# Altium footprint library SoC.PcbLib: 3 footprints
Each footprint in its own frame and in the unit in brackets; x right, y up, seen from the top. Pads: shape width x height; smd on the part's side, far side on the other; paste and mask are expansions set on the pad; w line width, h text height; cw(c..) or ccw(c..) is an arc to the next point about the centre after c.
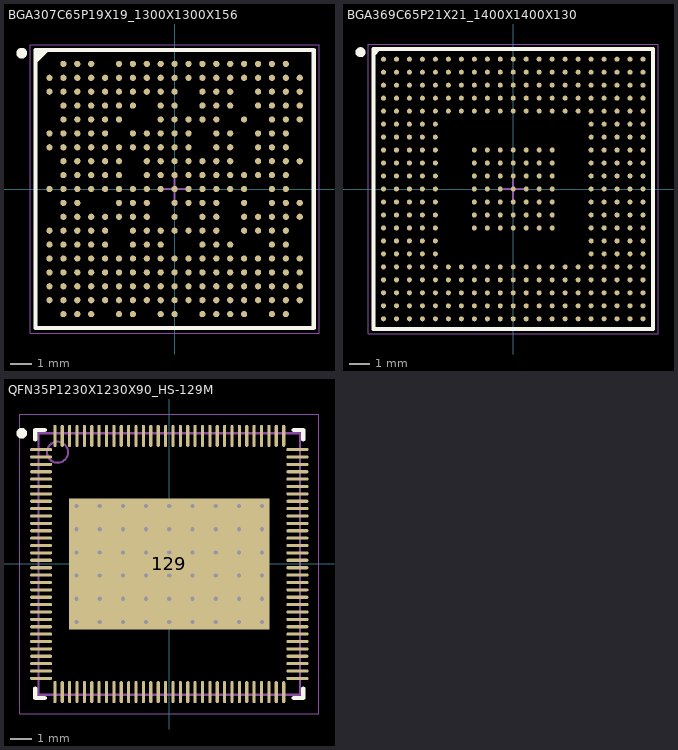
[diagram p0: the footprints below, top view; thin cyan lines are the x and y axes]

## BGA307C65P19X19_1300X1300X156 [mm] "BGA, 307-Leads, Body 13,00x13,00mmx1,56mm, Pitch 0,65mm"
height 1.56
pads (307):
  round 0.29 smd: A2(-5.2,5.85) A3(-4.55,5.85) A4(-3.9,5.85) A6(-2.6,5.85) A7(-1.95,5.85) A8(-1.3,5.85) A9(-0.65,5.85) A10(0,5.85) A11(0.65,5.85) A12(1.3,5.85) A13(1.95,5.85) A14(2.6,5.85) A15(3.25,5.85) A16(3.9,5.85) A17(4.55,5.85) A18(5.2,5.85) B1(-5.85,5.2) B2(-5.2,5.2) B3(-4.55,5.2) B4(-3.9,5.2) B5(-3.25,5.2) B6(-2.6,5.2) B7(-1.95,5.2) B8(-1.3,5.2) B9(-0.65,5.2) B10(0,5.2) B11(0.65,5.2) B12(1.3,5.2) B13(1.95,5.2) B14(2.6,5.2) B15(3.25,5.2) B16(3.9,5.2) B17(4.55,5.2) B18(5.2,5.2) B19(5.85,5.2) C1(-5.85,4.55) C2(-5.2,4.55) C3(-4.55,4.55) C4(-3.9,4.55) C5(-3.25,4.55) C6(-2.6,4.55) C7(-1.95,4.55) C8(-1.3,4.55) C9(-0.65,4.55) C10(0,4.55) C12(1.3,4.55) C13(1.95,4.55) C14(2.6,4.55) C16(3.9,4.55) C17(4.55,4.55) C18(5.2,4.55) C19(5.85,4.55) D2(-5.2,3.9) D3(-4.55,3.9) D4(-3.9,3.9) D5(-3.25,3.9) D6(-2.6,3.9) D7(-1.95,3.9) D9(-0.65,3.9) D10(0,3.9) D12(1.3,3.9) D13(1.95,3.9) D14(2.6,3.9) D16(3.9,3.9) D17(4.55,3.9) D18(5.2,3.9) D19(5.85,3.9) E2(-5.2,3.25) E3(-4.55,3.25) E4(-3.9,3.25) E5(-3.25,3.25) E6(-2.6,3.25) E9(-0.65,3.25) E10(0,3.25) E11(0.65,3.25) E12(1.3,3.25) E13(1.95,3.25) E15(3.25,3.25) E17(4.55,3.25) E18(5.2,3.25) E19(5.85,3.25) F1(-5.85,2.6) F2(-5.2,2.6) F3(-4.55,2.6) F4(-3.9,2.6) F5(-3.25,2.6) F7(-1.95,2.6) F8(-1.3,2.6) F9(-0.65,2.6) F10(0,2.6) F11(0.65,2.6) F13(1.95,2.6) F14(2.6,2.6) F16(3.9,2.6) F17(4.55,2.6) F18(5.2,2.6) G1(-5.85,1.95) G2(-5.2,1.95) G3(-4.55,1.95) G4(-3.9,1.95) G5(-3.25,1.95) G6(-2.6,1.95) G7(-1.95,1.95) G8(-1.3,1.95) G9(-0.65,1.95) G10(0,1.95) G11(0.65,1.95) G13(1.95,1.95) G14(2.6,1.95) G16(3.9,1.95) G17(4.55,1.95) G18(5.2,1.95) H2(-5.2,1.3) H3(-4.55,1.3) H4(-3.9,1.3) H5(-3.25,1.3) H6(-2.6,1.3) H8(-1.3,1.3) H9(-0.65,1.3) H10(0,1.3) H11(0.65,1.3) H12(1.3,1.3) H13(1.95,1.3) H14(2.6,1.3) H16(3.9,1.3) H17(4.55,1.3) H18(5.2,1.3) H19(5.85,1.3) J2(-5.2,0.65) J3(-4.55,0.65) J4(-3.9,0.65) J5(-3.25,0.65) J6(-2.6,0.65) J8(-1.3,0.65) J9(-0.65,0.65) J10(0,0.65) J11(0.65,0.65) J12(1.3,0.65) J13(1.95,0.65) J14(2.6,0.65) J15(3.25,0.65) J16(3.9,0.65) J17(4.55,0.65) J18(5.2,0.65) K1(-5.85,0) K2(-5.2,0) K3(-4.55,0) K4(-3.9,0) K5(-3.25,0) K6(-2.6,0) K7(-1.95,0) K8(-1.3,0) K9(-0.65,0) K10(0,0) K11(0.65,0) K12(1.3,0) K13(1.95,0) K14(2.6,0) K15(3.25,0) K17(4.55,0) K18(5.2,0) L2(-5.2,-0.65) L3(-4.55,-0.65) L6(-2.6,-0.65) L7(-1.95,-0.65) L8(-1.3,-0.65) L10(0,-0.65) L11(0.65,-0.65) L12(1.3,-0.65) L13(1.95,-0.65) L15(3.25,-0.65) L17(4.55,-0.65) L18(5.2,-0.65) L19(5.85,-0.65) M2(-5.2,-1.3) M3(-4.55,-1.3) M4(-3.9,-1.3) M5(-3.25,-1.3) M6(-2.6,-1.3) M7(-1.95,-1.3) M8(-1.3,-1.3) M10(0,-1.3) M12(1.3,-1.3) M13(1.95,-1.3) M15(3.25,-1.3) M16(3.9,-1.3) M17(4.55,-1.3) M18(5.2,-1.3) M19(5.85,-1.3) N1(-5.85,-1.95) N2(-5.2,-1.95) N3(-4.55,-1.95) N4(-3.9,-1.95) N5(-3.25,-1.95) N7(-1.95,-1.95) N8(-1.3,-1.95) N9(-0.65,-1.95) N10(0,-1.95) N11(0.65,-1.95) N12(1.3,-1.95) N13(1.95,-1.95) N15(3.25,-1.95) N16(3.9,-1.95) N17(4.55,-1.95) N18(5.2,-1.95) P1(-5.85,-2.6) P2(-5.2,-2.6) P3(-4.55,-2.6) P4(-3.9,-2.6) P5(-3.25,-2.6) P7(-1.95,-2.6) P8(-1.3,-2.6) P9(-0.65,-2.6) P12(1.3,-2.6) P13(1.95,-2.6) P14(2.6,-2.6) P17(4.55,-2.6) P18(5.2,-2.6) R1(-5.85,-3.25) R2(-5.2,-3.25) R3(-4.55,-3.25) R4(-3.9,-3.25) R5(-3.25,-3.25) R6(-2.6,-3.25) R7(-1.95,-3.25) R8(-1.3,-3.25) R9(-0.65,-3.25) R10(0,-3.25) R11(0.65,-3.25) R12(1.3,-3.25) R13(1.95,-3.25) R14(2.6,-3.25) R15(3.25,-3.25) R16(3.9,-3.25) R17(4.55,-3.25) R18(5.2,-3.25) R19(5.85,-3.25) T1(-5.85,-3.9) T2(-5.2,-3.9) T3(-4.55,-3.9) T4(-3.9,-3.9) T5(-3.25,-3.9) T6(-2.6,-3.9) T7(-1.95,-3.9) T8(-1.3,-3.9) T9(-0.65,-3.9) T10(0,-3.9) T11(0.65,-3.9) T12(1.3,-3.9) T13(1.95,-3.9) T14(2.6,-3.9) T15(3.25,-3.9) T16(3.9,-3.9) T17(4.55,-3.9) T18(5.2,-3.9) T19(5.85,-3.9) U1(-5.85,-4.55) U2(-5.2,-4.55) U3(-4.55,-4.55) U4(-3.9,-4.55) U5(-3.25,-4.55) U6(-2.6,-4.55) U7(-1.95,-4.55) U8(-1.3,-4.55) U9(-0.65,-4.55) U10(0,-4.55) U11(0.65,-4.55) U12(1.3,-4.55) U13(1.95,-4.55) U14(2.6,-4.55) U15(3.25,-4.55) U16(3.9,-4.55) U17(4.55,-4.55) U18(5.2,-4.55) U19(5.85,-4.55) V1(-5.85,-5.2) V2(-5.2,-5.2) V3(-4.55,-5.2) V4(-3.9,-5.2) V5(-3.25,-5.2) V6(-2.6,-5.2) V7(-1.95,-5.2) V8(-1.3,-5.2) V9(-0.65,-5.2) V10(0,-5.2) V11(0.65,-5.2) V12(1.3,-5.2) V13(1.95,-5.2) V14(2.6,-5.2) V15(3.25,-5.2) V16(3.9,-5.2) V17(4.55,-5.2) V18(5.2,-5.2) V19(5.85,-5.2) W2(-5.2,-5.85) W3(-4.55,-5.85) W4(-3.9,-5.85) W6(-2.6,-5.85) W7(-1.95,-5.85) W9(-0.65,-5.85) W10(0,-5.85) W12(1.3,-5.85) W13(1.95,-5.85) W14(2.6,-5.85) W15(3.25,-5.85) W17(4.55,-5.85) W18(5.2,-5.85)
Top Overlay:
  circle w0.25: c-7.15,6.35 r0.125
  region: -5.971,6.5 -6.5,5.971 -6.5,6.5
  lines w0.2: -6.5,5.971 -5.971,6.5 ; -6.5,-6.5 6.5,-6.5 6.5,6.5 -6.5,6.5 -6.5,-6.5
Mechanical 13:
  lines w0.1: -6.5,-6.5 6.5,-6.5 6.5,6.5 -6.5,6.5 -6.5,-6.5
Mechanical 15:
  lines w0.05: -6.75,-6.75 6.75,-6.75 6.75,6.75 -6.75,6.75 -6.75,-6.75
  lines w0.1: -0.5,0 0.5,0 ; 0,-0.5 0,0.5
3D body: height 1.56, standoff 0.32, extent -6.5,-6.5 6.5,6.5

## BGA369C65P21X21_1400X1400X130 [mm] "BGA, 369-Leads, Body 14,00x14,00mmx1,30mm, Pitch 0,65mm"
height 1.3
pads (369):
  round 0.25 smd mask+0.05: A1(-6.5,6.5) A2(-5.85,6.5) A3(-5.2,6.5) A4(-4.55,6.5) A5(-3.9,6.5) A6(-3.25,6.5) A7(-2.6,6.5) A8(-1.95,6.5) A9(-1.3,6.5) A10(-0.65,6.5) A11(0,6.5) A12(0.65,6.5) A13(1.3,6.5) A14(1.95,6.5) A15(2.6,6.5) A16(3.25,6.5) A17(3.9,6.5) A18(4.55,6.5) A19(5.2,6.5) A20(5.85,6.5) A21(6.5,6.5) AA1(-6.5,-6.5) AA2(-5.85,-6.5) AA3(-5.2,-6.5) AA4(-4.55,-6.5) AA5(-3.9,-6.5) AA6(-3.25,-6.5) AA7(-2.6,-6.5) AA8(-1.95,-6.5) AA9(-1.3,-6.5) AA10(-0.65,-6.5) AA11(0,-6.5) AA12(0.65,-6.5) AA13(1.3,-6.5) AA14(1.95,-6.5) AA15(2.6,-6.5) AA16(3.25,-6.5) AA17(3.9,-6.5) AA18(4.55,-6.5) AA19(5.2,-6.5) AA20(5.85,-6.5) AA21(6.5,-6.5) B1(-6.5,5.85) B2(-5.85,5.85) B3(-5.2,5.85) B4(-4.55,5.85) B5(-3.9,5.85) B6(-3.25,5.85) B7(-2.6,5.85) B8(-1.95,5.85) B9(-1.3,5.85) B10(-0.65,5.85) B11(0,5.85) B12(0.65,5.85) B13(1.3,5.85) B14(1.95,5.85) B15(2.6,5.85) B16(3.25,5.85) B17(3.9,5.85) B18(4.55,5.85) B19(5.2,5.85) B20(5.85,5.85) B21(6.5,5.85) C1(-6.5,5.2) C2(-5.85,5.2) C3(-5.2,5.2) C4(-4.55,5.2) C5(-3.9,5.2) C6(-3.25,5.2) C7(-2.6,5.2) C8(-1.95,5.2) C9(-1.3,5.2) C10(-0.65,5.2) C11(0,5.2) C12(0.65,5.2) C13(1.3,5.2) C14(1.95,5.2) C15(2.6,5.2) C16(3.25,5.2) C17(3.9,5.2) C18(4.55,5.2) C19(5.2,5.2) C20(5.85,5.2) C21(6.5,5.2) D1(-6.5,4.55) D2(-5.85,4.55) D3(-5.2,4.55) D4(-4.55,4.55) D5(-3.9,4.55) D6(-3.25,4.55) D7(-2.6,4.55) D8(-1.95,4.55) D9(-1.3,4.55) D10(-0.65,4.55) D11(0,4.55) D12(0.65,4.55) D13(1.3,4.55) D14(1.95,4.55) D15(2.6,4.55) D16(3.25,4.55) D17(3.9,4.55) D18(4.55,4.55) D19(5.2,4.55) D20(5.85,4.55) D21(6.5,4.55) E1(-6.5,3.9) E2(-5.85,3.9) E3(-5.2,3.9) E4(-4.55,3.9) E5(-3.9,3.9) E6(-3.25,3.9) E7(-2.6,3.9) E8(-1.95,3.9) E9(-1.3,3.9) E10(-0.65,3.9) E11(0,3.9) E12(0.65,3.9) E13(1.3,3.9) E14(1.95,3.9) E15(2.6,3.9) E16(3.25,3.9) E17(3.9,3.9) E18(4.55,3.9) E19(5.2,3.9) E20(5.85,3.9) E21(6.5,3.9) F1(-6.5,3.25) F2(-5.85,3.25) F3(-5.2,3.25) F4(-4.55,3.25) F5(-3.9,3.25) F17(3.9,3.25) F18(4.55,3.25) F19(5.2,3.25) F20(5.85,3.25) F21(6.5,3.25) G1(-6.5,2.6) G2(-5.85,2.6) G3(-5.2,2.6) G4(-4.55,2.6) G5(-3.9,2.6) G17(3.9,2.6) G18(4.55,2.6) G19(5.2,2.6) G20(5.85,2.6) G21(6.5,2.6) H1(-6.5,1.95) H2(-5.85,1.95) H3(-5.2,1.95) H4(-4.55,1.95) H5(-3.9,1.95) H8(-1.95,1.95) H9(-1.3,1.95) H10(-0.65,1.95) H11(0,1.95) H12(0.65,1.95) H13(1.3,1.95) H14(1.95,1.95) H17(3.9,1.95) H18(4.55,1.95) H19(5.2,1.95) H20(5.85,1.95) H21(6.5,1.95) J1(-6.5,1.3) J2(-5.85,1.3) J3(-5.2,1.3) J4(-4.55,1.3) J5(-3.9,1.3) J8(-1.95,1.3) J9(-1.3,1.3) J10(-0.65,1.3) J11(0,1.3) J12(0.65,1.3) J13(1.3,1.3) J14(1.95,1.3) J17(3.9,1.3) J18(4.55,1.3) J19(5.2,1.3) J20(5.85,1.3) J21(6.5,1.3) K1(-6.5,0.65) K2(-5.85,0.65) K3(-5.2,0.65) K4(-4.55,0.65) K5(-3.9,0.65) K8(-1.95,0.65) K9(-1.3,0.65) K10(-0.65,0.65) K11(0,0.65) K12(0.65,0.65) K13(1.3,0.65) K14(1.95,0.65) K17(3.9,0.65) K18(4.55,0.65) K19(5.2,0.65) K20(5.85,0.65) K21(6.5,0.65) L1(-6.5,0) L2(-5.85,0) L3(-5.2,0) L4(-4.55,0) L5(-3.9,0) L8(-1.95,0) L9(-1.3,0) L10(-0.65,0) L11(0,0) L12(0.65,0) L13(1.3,0) L14(1.95,0) L17(3.9,0) L18(4.55,0) L19(5.2,0) L20(5.85,0) L21(6.5,0) M1(-6.5,-0.65) M2(-5.85,-0.65) M3(-5.2,-0.65) M4(-4.55,-0.65) M5(-3.9,-0.65) M8(-1.95,-0.65) M9(-1.3,-0.65) M10(-0.65,-0.65) M11(0,-0.65) M12(0.65,-0.65) M13(1.3,-0.65) M14(1.95,-0.65) M17(3.9,-0.65) M18(4.55,-0.65) M19(5.2,-0.65) M20(5.85,-0.65) M21(6.5,-0.65) N1(-6.5,-1.3) N2(-5.85,-1.3) N3(-5.2,-1.3) N4(-4.55,-1.3) N5(-3.9,-1.3) N8(-1.95,-1.3) N9(-1.3,-1.3) N10(-0.65,-1.3) N11(0,-1.3) N12(0.65,-1.3) N13(1.3,-1.3) N14(1.95,-1.3) N17(3.9,-1.3) N18(4.55,-1.3) N19(5.2,-1.3) N20(5.85,-1.3) N21(6.5,-1.3) P1(-6.5,-1.95) P2(-5.85,-1.95) P3(-5.2,-1.95) P4(-4.55,-1.95) P5(-3.9,-1.95) P8(-1.95,-1.95) P9(-1.3,-1.95) P10(-0.65,-1.95) P11(0,-1.95) P12(0.65,-1.95) P13(1.3,-1.95) P14(1.95,-1.95) P17(3.9,-1.95) P18(4.55,-1.95) P19(5.2,-1.95) P20(5.85,-1.95) P21(6.5,-1.95) R1(-6.5,-2.6) R2(-5.85,-2.6) R3(-5.2,-2.6) R4(-4.55,-2.6) R5(-3.9,-2.6) R17(3.9,-2.6) R18(4.55,-2.6) R19(5.2,-2.6) R20(5.85,-2.6) R21(6.5,-2.6) T1(-6.5,-3.25) T2(-5.85,-3.25) T3(-5.2,-3.25) T4(-4.55,-3.25) T5(-3.9,-3.25) T17(3.9,-3.25) T18(4.55,-3.25) T19(5.2,-3.25) T20(5.85,-3.25) T21(6.5,-3.25) U1(-6.5,-3.9) U2(-5.85,-3.9) U3(-5.2,-3.9) U4(-4.55,-3.9) U5(-3.9,-3.9) U6(-3.25,-3.9) U7(-2.6,-3.9) U8(-1.95,-3.9) U9(-1.3,-3.9) U10(-0.65,-3.9) U11(0,-3.9) U12(0.65,-3.9) U13(1.3,-3.9) U14(1.95,-3.9) U15(2.6,-3.9) U16(3.25,-3.9) U17(3.9,-3.9) U18(4.55,-3.9) U19(5.2,-3.9) U20(5.85,-3.9) U21(6.5,-3.9) V1(-6.5,-4.55) V2(-5.85,-4.55) V3(-5.2,-4.55) V4(-4.55,-4.55) V5(-3.9,-4.55) V6(-3.25,-4.55) V7(-2.6,-4.55) V8(-1.95,-4.55) V9(-1.3,-4.55) V10(-0.65,-4.55) V11(0,-4.55) V12(0.65,-4.55) V13(1.3,-4.55) V14(1.95,-4.55) V15(2.6,-4.55) V16(3.25,-4.55) V17(3.9,-4.55) V18(4.55,-4.55) V19(5.2,-4.55) V20(5.85,-4.55) V21(6.5,-4.55) W1(-6.5,-5.2) W2(-5.85,-5.2) W3(-5.2,-5.2) W4(-4.55,-5.2) W5(-3.9,-5.2) W6(-3.25,-5.2) W7(-2.6,-5.2) W8(-1.95,-5.2) W9(-1.3,-5.2) W10(-0.65,-5.2) W11(0,-5.2) W12(0.65,-5.2) W13(1.3,-5.2) W14(1.95,-5.2) W15(2.6,-5.2) W16(3.25,-5.2) W17(3.9,-5.2) W18(4.55,-5.2) W19(5.2,-5.2) W20(5.85,-5.2) W21(6.5,-5.2) Y1(-6.5,-5.85) Y2(-5.85,-5.85) Y3(-5.2,-5.85) Y4(-4.55,-5.85) Y5(-3.9,-5.85) Y6(-3.25,-5.85) Y7(-2.6,-5.85) Y8(-1.95,-5.85) Y9(-1.3,-5.85) Y10(-0.65,-5.85) Y11(0,-5.85) Y12(0.65,-5.85) Y13(1.3,-5.85) Y14(1.95,-5.85) Y15(2.6,-5.85) Y16(3.25,-5.85) Y17(3.9,-5.85) Y18(4.55,-5.85) Y19(5.2,-5.85) Y20(5.85,-5.85) Y21(6.5,-5.85)
Top Overlay:
  circle w0.25: c-7.65,6.85 r0.125
  region: -6.742,7 -7,6.742 -7,7
  lines w0.2: -7,6.742 -6.742,7 ; -7,-7 -7,7 7,7 7,-7 -7,-7
Mechanical 13:
  lines w0.1: -7,-7 -7,7 7,7 7,-7 -7,-7
Mechanical 15:
  lines w0.05: -7.25,-7.25 -7.25,7.25 7.25,7.25 7.25,-7.25 -7.25,-7.25
  lines w0.1: -0.5,0 0.5,0 ; 0,-0.5 0,0.5
3D body "BGA369C65P21X21_1400X1400X130.step": height 1.3, standoff 0, extent -7,-7 7,7

## QFN35P1230X1230X90_HS-129M [mm] "QFN, 128-Leads, Body 12,30x12,30mm, Pitch 0,35mm, Thermal Pad 9,50x6,20mm, IPC Low Density"
height 0.9
pads (129):
  oval 1.05x0.15 smd: 1(-6.075,5.425) 2(-6.075,5.075) 3(-6.075,4.725) 4(-6.075,4.375) 5(-6.075,4.025) 6(-6.075,3.675) 7(-6.075,3.325) 8(-6.075,2.975) 9(-6.075,2.625) 10(-6.075,2.275) 11(-6.075,1.925) 12(-6.075,1.575) 13(-6.075,1.225) 14(-6.075,0.875) 15(-6.075,0.525) 16(-6.075,0.175) 17(-6.075,-0.175) 18(-6.075,-0.525) 19(-6.075,-0.875) 20(-6.075,-1.225) 21(-6.075,-1.575) 22(-6.075,-1.925) 23(-6.075,-2.275) 24(-6.075,-2.625) 25(-6.075,-2.975) 26(-6.075,-3.325) 27(-6.075,-3.675) 28(-6.075,-4.025) 29(-6.075,-4.375) 30(-6.075,-4.725) 31(-6.075,-5.075) 32(-6.075,-5.425) 65(6.075,-5.425) 66(6.075,-5.075) 67(6.075,-4.725) 68(6.075,-4.375) 69(6.075,-4.025) 70(6.075,-3.675) 71(6.075,-3.325) 72(6.075,-2.975) 73(6.075,-2.625) 74(6.075,-2.275) 75(6.075,-1.925) 76(6.075,-1.575) 77(6.075,-1.225) 78(6.075,-0.875) 79(6.075,-0.525) 80(6.075,-0.175) 81(6.075,0.175) 82(6.075,0.525) 83(6.075,0.875) 84(6.075,1.225) 85(6.075,1.575) 86(6.075,1.925) 87(6.075,2.275) 88(6.075,2.625) 89(6.075,2.975) 90(6.075,3.325) 91(6.075,3.675) 92(6.075,4.025) 93(6.075,4.375) 94(6.075,4.725) 95(6.075,5.075) 96(6.075,5.425)
  oval 0.15x1.05 smd: 33(-5.425,-6.075) 34(-5.075,-6.075) 35(-4.725,-6.075) 36(-4.375,-6.075) 37(-4.025,-6.075) 38(-3.675,-6.075) 39(-3.325,-6.075) 40(-2.975,-6.075) 41(-2.625,-6.075) 42(-2.275,-6.075) 43(-1.925,-6.075) 44(-1.575,-6.075) 45(-1.225,-6.075) 46(-0.875,-6.075) 47(-0.525,-6.075) 48(-0.175,-6.075) 49(0.175,-6.075) 50(0.525,-6.075) 51(0.875,-6.075) 52(1.225,-6.075) 53(1.575,-6.075) 54(1.925,-6.075) 55(2.275,-6.075) 56(2.625,-6.075) 57(2.975,-6.075) 58(3.325,-6.075) 59(3.675,-6.075) 60(4.025,-6.075) 61(4.375,-6.075) 62(4.725,-6.075) 63(5.075,-6.075) 64(5.425,-6.075) 97(5.425,6.075) 98(5.075,6.075) 99(4.725,6.075) 100(4.375,6.075) 101(4.025,6.075) 102(3.675,6.075) 103(3.325,6.075) 104(2.975,6.075) 105(2.625,6.075) 106(2.275,6.075) 107(1.925,6.075) 108(1.575,6.075) 109(1.225,6.075) 110(0.875,6.075) 111(0.525,6.075) 112(0.175,6.075) 113(-0.175,6.075) 114(-0.525,6.075) 115(-0.875,6.075) 116(-1.225,6.075) 117(-1.575,6.075) 118(-1.925,6.075) 119(-2.275,6.075) 120(-2.625,6.075) 121(-2.975,6.075) 122(-3.325,6.075) 123(-3.675,6.075) 124(-4.025,6.075) 125(-4.375,6.075) 126(-4.725,6.075) 127(-5.075,6.075) 128(-5.425,6.075)
  rect 9.5x6.2 smd: 129(0,0)
via 4.4,-2.75 diameter 0.5 hole 0.2
via 3.3,-2.75 diameter 0.5 hole 0.2
via 2.2,-2.75 diameter 0.5 hole 0.2
via 1.1,-2.75 diameter 0.5 hole 0.2
via 0,-2.75 diameter 0.5 hole 0.2
via -1.1,-2.75 diameter 0.5 hole 0.2
via -2.2,-2.75 diameter 0.5 hole 0.2
via -3.3,-2.75 diameter 0.5 hole 0.2
via -4.4,-2.75 diameter 0.5 hole 0.2
via 4.4,-1.65 diameter 0.5 hole 0.2
via 3.3,-1.65 diameter 0.5 hole 0.2
via 2.2,-1.65 diameter 0.5 hole 0.2
via 1.1,-1.65 diameter 0.5 hole 0.2
via 0,-1.65 diameter 0.5 hole 0.2
via -1.1,-1.65 diameter 0.5 hole 0.2
via -2.2,-1.65 diameter 0.5 hole 0.2
via -3.3,-1.65 diameter 0.5 hole 0.2
via -4.4,-1.65 diameter 0.5 hole 0.2
via 4.4,-0.55 diameter 0.5 hole 0.2
via 3.3,-0.55 diameter 0.5 hole 0.2
via 2.2,-0.55 diameter 0.5 hole 0.2
via 1.1,-0.55 diameter 0.5 hole 0.2
via 0,-0.55 diameter 0.5 hole 0.2
via -1.1,-0.55 diameter 0.5 hole 0.2
via -2.2,-0.55 diameter 0.5 hole 0.2
via -3.3,-0.55 diameter 0.5 hole 0.2
via -4.4,-0.55 diameter 0.5 hole 0.2
via 4.4,0.55 diameter 0.5 hole 0.2
via 3.3,0.55 diameter 0.5 hole 0.2
via 2.2,0.55 diameter 0.5 hole 0.2
via 1.1,0.55 diameter 0.5 hole 0.2
via 0,0.55 diameter 0.5 hole 0.2
via -1.1,0.55 diameter 0.5 hole 0.2
via -2.2,0.55 diameter 0.5 hole 0.2
via -3.3,0.55 diameter 0.5 hole 0.2
via -4.4,0.55 diameter 0.5 hole 0.2
via 4.4,1.65 diameter 0.5 hole 0.2
via 3.3,1.65 diameter 0.5 hole 0.2
via 2.2,1.65 diameter 0.5 hole 0.2
via 1.1,1.65 diameter 0.5 hole 0.2
via 0,1.65 diameter 0.5 hole 0.2
via -1.1,1.65 diameter 0.5 hole 0.2
via -2.2,1.65 diameter 0.5 hole 0.2
via -3.3,1.65 diameter 0.5 hole 0.2
via -4.4,1.65 diameter 0.5 hole 0.2
via 4.4,2.75 diameter 0.5 hole 0.2
via 3.3,2.75 diameter 0.5 hole 0.2
via 2.2,2.75 diameter 0.5 hole 0.2
via 1.1,2.75 diameter 0.5 hole 0.2
via 0,2.75 diameter 0.5 hole 0.2
via -1.1,2.75 diameter 0.5 hole 0.2
via -2.2,2.75 diameter 0.5 hole 0.2
via -3.3,2.75 diameter 0.5 hole 0.2
via -4.4,2.75 diameter 0.5 hole 0.2
Top Overlay:
  circle w0.25: c-7,6.2 r0.125
  lines w0.2: -6.35,-5.9 -6.35,-6.35 -5.9,-6.35 ; -6.35,5.9 -6.35,6.35 -5.9,6.35 ; 5.9,-6.35 6.35,-6.35 6.35,-5.9 ; 5.9,6.35 6.35,6.35 6.35,5.9
Top Courtyard:
  circle w0.1: c-5.3,5.3 r0.5
  lines w0.1: -6.2,-6.2 -6.2,6.2 6.2,6.2 6.2,-6.2 -6.2,-6.2
Mechanical 13:
  circle w0.1: c-5.3,5.3 r0.5
  lines w0.1: -6.2,-6.2 6.2,-6.2 6.2,6.2 -6.2,6.2 -6.2,-6.2
Mechanical 15:
  lines w0.05: -7.1,-7.1 7.1,-7.1 7.1,7.1 -7.1,7.1 -7.1,-7.1
  lines w0.1: -0.5,0 0.5,0 ; 0,-0.5 0,0.5
3D body: height 0.9, standoff 0.01, extent -6.2,-6.2 6.2,6.2
3D body: height 0.9, standoff 0.01, extent -6.2,-6.2 6.2,6.2